# EAGLE library part THS8135 (library ICs)
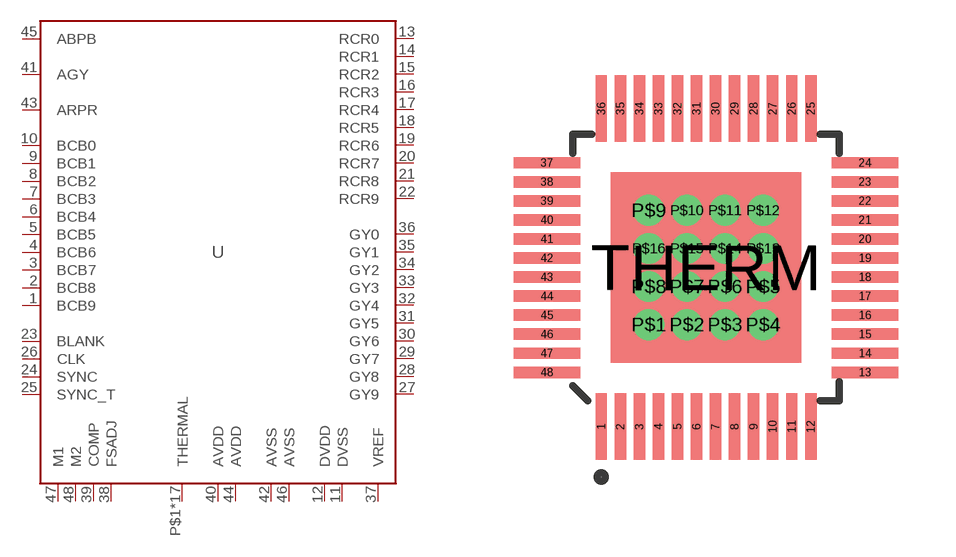
[diagram p35: symbol with the pads of S-PQFP-G48; footprint S-PQFP-G48]

Designator prefix U

## THS8135  [S-PQFP-G48]
1  BCB9
2  BCB8
3  BCB7
4  BCB6
5  BCB5
6  BCB4
7  BCB3
8  BCB2
9  BCB1
10  BCB0
11  DVSS
12  DVDD
13  RCR0
14  RCR1
15  RCR2
16  RCR3
17  RCR4
18  RCR5
19  RCR6
20  RCR7
21  RCR8
22  RCR9
23  BLANK
24  SYNC
25  SYNC_T
26  CLK
27  GY9
28  GY8
29  GY7
30  GY6
31  GY5
32  GY4
33  GY3
34  GY2
35  GY1
36  GY0
37  VREF
38  FSADJ
39  COMP
40  AVDD
41  AGY
42  AVSS
43  ARPR
44  AVDD
45  ABPB
46  AVSS
47  M1
48  M2
P$1  THERMAL
P$2  THERMAL
P$3  THERMAL
P$4  THERMAL
P$5  THERMAL
P$6  THERMAL
P$7  THERMAL
P$8  THERMAL
P$9  THERMAL
P$10  THERMAL
P$11  THERMAL
P$12  THERMAL
P$13  THERMAL
P$14  THERMAL
P$15  THERMAL
P$16  THERMAL
THERM  THERMAL

## Footprint S-PQFP-G48 (pad centres in mm)
PHP - PowerPAD TQFP-48
smd 0.3 x 1.75: 1 -2.75,-4.175; 2 -2.25,-4.175; 3 -1.75,-4.175; 4 -1.25,-4.175; 5 -0.75,-4.175; 6 -0.25,-4.175; 7 0.25,-4.175; 8 0.75,-4.175; 9 1.25,-4.175; 10 1.75,-4.175; 11 2.25,-4.175; 12 2.75,-4.175; 25 2.75,4.175; 26 2.25,4.175; 27 1.75,4.175; 28 1.25,4.175; 29 0.75,4.175; 30 0.25,4.175; 31 -0.25,4.175; 32 -0.75,4.175; 33 -1.25,4.175; 34 -1.75,4.175; 35 -2.25,4.175; 36 -2.75,4.175
smd 1.75 x 0.3: 13 4.175,-2.75; 14 4.175,-2.25; 15 4.175,-1.75; 16 4.175,-1.25; 17 4.175,-0.75; 18 4.175,-0.25; 19 4.175,0.25; 20 4.175,0.75; 21 4.175,1.25; 22 4.175,1.75; 23 4.175,2.25; 24 4.175,2.75; 37 -4.175,2.75; 38 -4.175,2.25; 39 -4.175,1.75; 40 -4.175,1.25; 41 -4.175,0.75; 42 -4.175,0.25; 43 -4.175,-0.25; 44 -4.175,-0.75; 45 -4.175,-1.25; 46 -4.175,-1.75; 47 -4.175,-2.25; 48 -4.175,-2.75
drill 0.3: P$1 -1.5,-1.5; P$2 -0.5,-1.5; P$3 0.5,-1.5; P$4 1.5,-1.5; P$5 1.5,-0.5; P$6 0.5,-0.5; P$7 -0.5,-0.5; P$8 -1.5,-0.5; P$9 -1.5,1.5; P$10 -0.5,1.5; P$11 0.5,1.5; P$12 1.5,1.5; P$13 1.5,0.5; P$14 0.5,0.5; P$15 -0.5,0.5; P$16 -1.5,0.5
smd 5 x 5: THERM 0,0